# Altium footprint library PPTC_0201.PcbLib: 1 footprints
Each footprint in its own frame and in the unit in brackets; x right, y up, seen from the top. Pads: shape width x height; smd on the part's side, far side on the other; paste and mask are expansions set on the pad; w line width, h text height; cw(c..) or ccw(c..) is an arc to the next point about the centre after c.
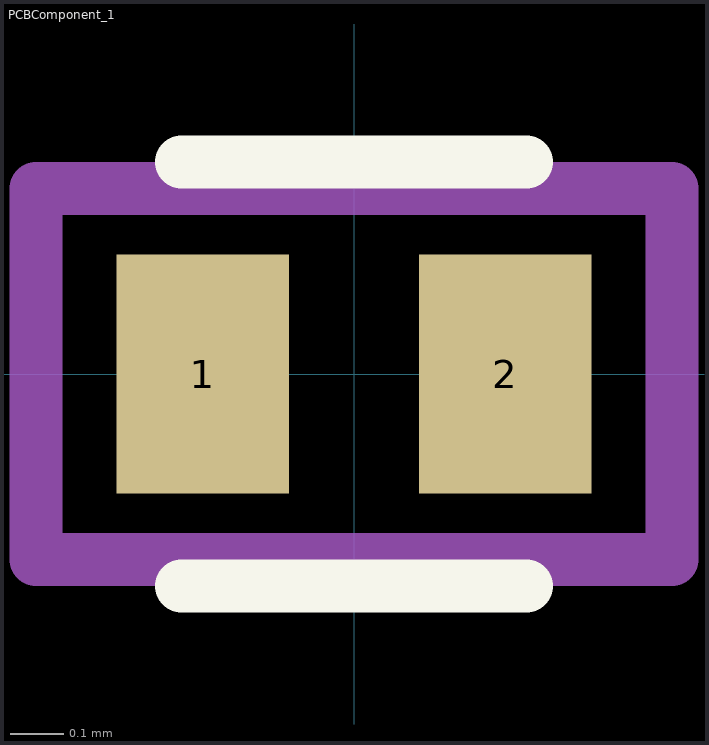
[diagram p0: the footprint, top view; thin cyan lines are the x and y axes]

## PCBComponent_1 [mm]
pads (2):
  rect 0.325x0.45 smd: 1(-0.285,0) 2(0.285,0)
Top Overlay:
  lines w0.1: -0.325,-0.4 0.325,-0.4 ; -0.325,0.4 0.325,0.4
Mechanical 1:
  lines w0.1: -0.6,-0.35 0.6,-0.35 0.6,0.35 -0.6,0.35 -0.6,-0.35